# Altium schematic symbol library MCU_ST_STM32L0.SchLib: 2 symbols
Pins are listed as number, name and electrical type; pins without a type are passive.

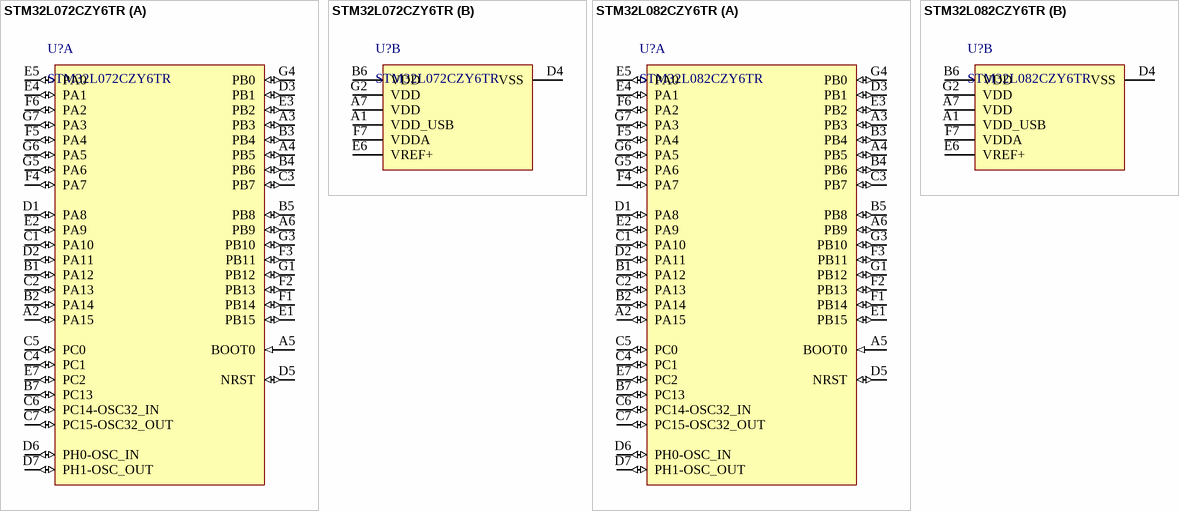
[diagram p0: symbols STM32L072CZY6TR to STM32L082CZY6TR]

## STM32L072CZY6TR
designator U?
ARM Cortex-M0+ 32-bit MCU, 192kB Flash, 20KB SRAM, 6KB EEPROM, USB, ADC, DACs, 49-pin WLCSP, -40 to 85 degC, Tape and Reel; Manufacturer: STMicroelectronics; PackageReference: WLCSP49; Packing: Tape and Reel; Mounting Technology: Surface Mount; Supplier 1: Farnell; Supplier 2: Newark; Supplier 3: Digi-Key; Supplier Part Number 1: 2518147; Supplier Part Number 2: 74Y7872; Supplier Part Number 3: STM32L072CZY6TR-ND; PartNumber: STM32L072CZY6TR
footprint STM-WLCSP49 (BGA, 49-Balls, Body 2.97x2.97mm, Pitch 0.4mm)
part A pins: A2 PA15 (io) "PA15/SPI1_NSS,SPI3_NSS/I2S3_WS,TIM2_CH1/TIM2_ETR,JTDI", A3 PB3 (io) "PB3/SPI1_SCK,SPI3_SCK/I2S3_CK,I2C2_SDA,TIM2_CH2,JTDO-SWO", A4 PB5 (io) "PB5/SPI1_MOSI,SPI3_MOSI/I2S3_SD,I2C1_SMBAL,TIM3_CH2", A5 BOOT0 (in), A6 PB9 (io) "PB9/SPI2_NSS/I2S2_WS,I2C1_SDA,TIM4_CH4,TIM11_CH1,SDIO_D5", B1 PA12 (io) "PA12/USART1_RTS,USART6_RX,TIM1_ETR,USB_FS_DP", B2 PA14 (io) "PA14/JTCK-SWCLK", B3 PB4 (io) "PB4/SPI1_MISO,SPI3_MISO,I2S3ext_SD,I2C3_SDA,TIM3_CH1,JTRST", B4 PB6 (io) "PB6/I2C1_SCL,USART1_TX,TIM4_CH1", B5 PB8 (io) "PB8/I2C1_SCL,TIM4_CH3,TIM10_CH1,SDIO_D4", B7 PC13 (io) "PC13-ANTI_TAMP/TAMP_1", C1 PA10 (io) "PA10/USART1_RX,TIM1_CH3,USB_FS_ID", C2 PA13 (io) "PA13/JTMS-SWDIO", C3 PB7 (io) "PB7/I2C1_SDA,USART1_RX,TIM4_CH2", C4 PC1 (io) "PC13-ANTI_TAMP/TAMP_1", C5 PC0 (io) "PC13-ANTI_TAMP/TAMP_1", C6 PC14-OSC32_IN (io) "PC14-OSC32_IN/OSC32_IN", C7 PC15-OSC32_OUT (io) "PC15-OSC32_OUT/OSC32_OUT", D1 PA8 (io) "PA8/I2C3_SCL,USART1_CK,TIM1_CH1,USB_FS_SOF,MCO_1", D2 PA11 (io) "PA11/USART1_CTS,USART6_TX,TIM1_CH4,USB_FS_DM", D3 PB1 (io) "PB1/TIM1_CH3N,TIM3_CH4/ADC1_9", D5 NRST (io), D6 PH0-OSC_IN (io) "PH0-OSC_IN/OSC_IN", D7 PH1-OSC_OUT (io) "PH1-OSC_OUT/OSC_OUT", E1 PB15 (io) "PB15/SPI2_MOSI/I2S2_SD,TIM1_CH3N,RTC_50Hz", E2 PA9 (io) "PA9/I2C3_SMBAL,USART1_TX,TIM1_CH2,USB_FS_VBUS", E3 PB2 (io), E4 PA1 (io) "PA1/USART2_RTS,TIM2_CH2,TIM5_CH2/ADC1_1", E5 PA0 (io) "PA0-WKUP/USART2_CTS,TIM2_CH1/TIM2_ETR,TIM5_CH1/ADC1_0,WKUP", E7 PC2 (io) "PC13-ANTI_TAMP/TAMP_1", F1 PB14 (io) "PB14/SPI2_MISO,I2S2ext_SD,TIM1_CH2N", F2 PB13 (io) "PB13/SPI2_SCK/I2S2_CK,TIM1_CH1N", F3 PB11 (io) "PB12/SPI2_NSS/I2S2_WS,I2C2_SMBAL,TIM1_BKIN", F4 PA7 (io) "PA7/SPI1_MOSI,TIM1_CH1N,TIM3_CH2/ADC1_7", F5 PA4 (io) "PA4/SPI1_NSS,SPI3_NSS/I2S3_WS,USART2_CK/ADC1_4", F6 PA2 (io) "PA2/USART2_TX,TIM2_CH3,TIM5_CH3,TIM9_CH1/ADC1_2", G1 PB12 (io) "PB12/SPI2_NSS/I2S2_WS,I2C2_SMBAL,TIM1_BKIN", G3 PB10 (io) "PB10/SPI2_SCK/I2S2_CK,I2C2_SCL,TIM2_CH3", G4 PB0 (io) "PB0/TIM1_CH2N,TIM3_CH3/ADC1_8", G5 PA6 (io) "PA6/SPI1_MISO,TIM1_BKIN,TIM3_CH1/ADC1_6", G6 PA5 (io) "PA5/SPI1_SCK,TIM2_CH1/TIM2_ETR/ADC1_5", G7 PA3 (io) "PA3/USART2_RX,TIM2_CH4,TIM5_CH4,TIM9_CH2/ADC1_3"
part B pins: A1 VDD_USB "VDD", A7 VDD, B6 VDD, D4 VSS, E6 VREF+ "VSSA/VREF-", F7 VDDA, G2 VDD

## STM32L082CZY6TR
designator U?
Ultra-low-power ARM Cortex-M0+ MCU with 192-Kbytes Flash, 32 MHz CPU, AES, 20KB SRAM, 6KB EEPROM, USB, ADC, DACs, 49-pin WLCSP, -40 to 85 degC, Tape and Reel; Manufacturer 1: STMicroelectronics; PackageReference: WLCSP49; Packing: Tape and Reel; Mounting Technology: Surface Mount; PartNumber: STM32L082CZY6TR; Supplier 1: Digi-Key; Supplier 2: Newark; Supplier Part Number 1: STM32L082CZY6TR-ND; Supplier Part Number 2: 84Y8813; Manufacturer Part Number 1: STM32L082CZY6TR
footprint STM-WLCSP49 (BGA, 49-Balls, Body 2.97x2.97mm, Pitch 0.4mm)
part A pins: A2 PA15 (io) "PA15/SPI1_NSS,SPI3_NSS/I2S3_WS,TIM2_CH1/TIM2_ETR,JTDI", A3 PB3 (io) "PB3/SPI1_SCK,SPI3_SCK/I2S3_CK,I2C2_SDA,TIM2_CH2,JTDO-SWO", A4 PB5 (io) "PB5/SPI1_MOSI,SPI3_MOSI/I2S3_SD,I2C1_SMBAL,TIM3_CH2", A5 BOOT0 (in), A6 PB9 (io) "PB9/SPI2_NSS/I2S2_WS,I2C1_SDA,TIM4_CH4,TIM11_CH1,SDIO_D5", B1 PA12 (io) "PA12/USART1_RTS,USART6_RX,TIM1_ETR,USB_FS_DP", B2 PA14 (io) "PA14/JTCK-SWCLK", B3 PB4 (io) "PB4/SPI1_MISO,SPI3_MISO,I2S3ext_SD,I2C3_SDA,TIM3_CH1,JTRST", B4 PB6 (io) "PB6/I2C1_SCL,USART1_TX,TIM4_CH1", B5 PB8 (io) "PB8/I2C1_SCL,TIM4_CH3,TIM10_CH1,SDIO_D4", B7 PC13 (io) "PC13-ANTI_TAMP/TAMP_1", C1 PA10 (io) "PA10/USART1_RX,TIM1_CH3,USB_FS_ID", C2 PA13 (io) "PA13/JTMS-SWDIO", C3 PB7 (io) "PB7/I2C1_SDA,USART1_RX,TIM4_CH2", C4 PC1 (io) "PC13-ANTI_TAMP/TAMP_1", C5 PC0 (io) "PC13-ANTI_TAMP/TAMP_1", C6 PC14-OSC32_IN (io) "PC14-OSC32_IN/OSC32_IN", C7 PC15-OSC32_OUT (io) "PC15-OSC32_OUT/OSC32_OUT", D1 PA8 (io) "PA8/I2C3_SCL,USART1_CK,TIM1_CH1,USB_FS_SOF,MCO_1", D2 PA11 (io) "PA11/USART1_CTS,USART6_TX,TIM1_CH4,USB_FS_DM", D3 PB1 (io) "PB1/TIM1_CH3N,TIM3_CH4/ADC1_9", D5 NRST (io), D6 PH0-OSC_IN (io) "PH0-OSC_IN/OSC_IN", D7 PH1-OSC_OUT (io) "PH1-OSC_OUT/OSC_OUT", E1 PB15 (io) "PB15/SPI2_MOSI/I2S2_SD,TIM1_CH3N,RTC_50Hz", E2 PA9 (io) "PA9/I2C3_SMBAL,USART1_TX,TIM1_CH2,USB_FS_VBUS", E3 PB2 (io), E4 PA1 (io) "PA1/USART2_RTS,TIM2_CH2,TIM5_CH2/ADC1_1", E5 PA0 (io) "PA0-WKUP/USART2_CTS,TIM2_CH1/TIM2_ETR,TIM5_CH1/ADC1_0,WKUP", E7 PC2 (io) "PC13-ANTI_TAMP/TAMP_1", F1 PB14 (io) "PB14/SPI2_MISO,I2S2ext_SD,TIM1_CH2N", F2 PB13 (io) "PB13/SPI2_SCK/I2S2_CK,TIM1_CH1N", F3 PB11 (io) "PB12/SPI2_NSS/I2S2_WS,I2C2_SMBAL,TIM1_BKIN", F4 PA7 (io) "PA7/SPI1_MOSI,TIM1_CH1N,TIM3_CH2/ADC1_7", F5 PA4 (io) "PA4/SPI1_NSS,SPI3_NSS/I2S3_WS,USART2_CK/ADC1_4", F6 PA2 (io) "PA2/USART2_TX,TIM2_CH3,TIM5_CH3,TIM9_CH1/ADC1_2", G1 PB12 (io) "PB12/SPI2_NSS/I2S2_WS,I2C2_SMBAL,TIM1_BKIN", G3 PB10 (io) "PB10/SPI2_SCK/I2S2_CK,I2C2_SCL,TIM2_CH3", G4 PB0 (io) "PB0/TIM1_CH2N,TIM3_CH3/ADC1_8", G5 PA6 (io) "PA6/SPI1_MISO,TIM1_BKIN,TIM3_CH1/ADC1_6", G6 PA5 (io) "PA5/SPI1_SCK,TIM2_CH1/TIM2_ETR/ADC1_5", G7 PA3 (io) "PA3/USART2_RX,TIM2_CH4,TIM5_CH4,TIM9_CH2/ADC1_3"
part B pins: A1 VDD_USB "VDD", A7 VDD, B6 VDD, D4 VSS, E6 VREF+ "VSSA/VREF-", F7 VDDA, G2 VDD